# EAGLE library part CON-SD-MMC (library MAX9812)
Various SD/MMC Connectors
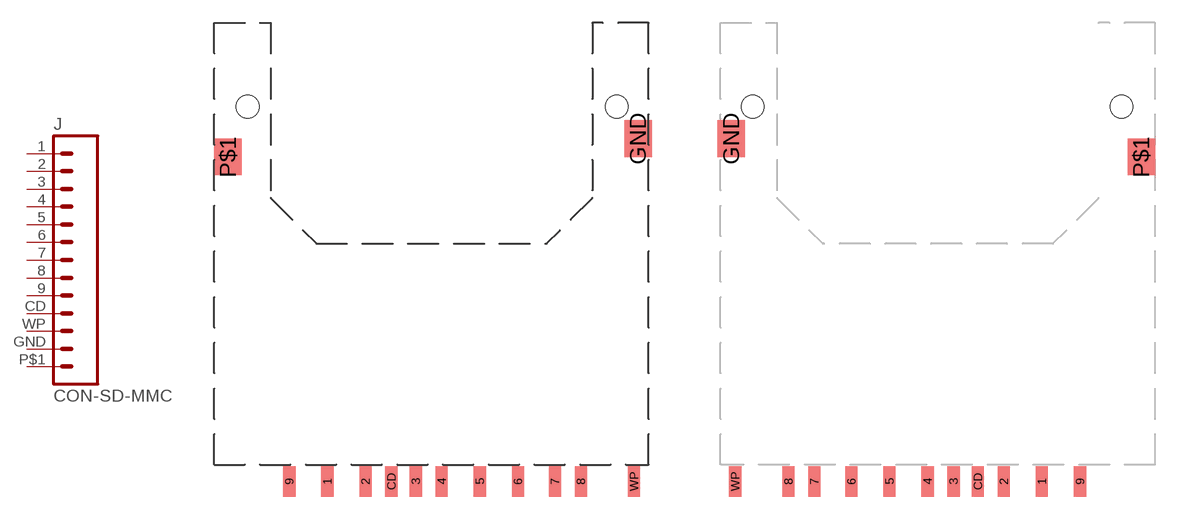
[diagram p116: symbol with the pads of 14-5638-009-511-862; footprints 14-5638-009-511-862, 14-5638-109-511-862]

Designator prefix J

## CON-SD-MMC-1  [14-5638-009-511-862]
1  1  pas
2  2  pas
3  3  pas
4  4  pas
5  5  pas
6  6  pas
7  7  pas
8  8  pas
9  9  pas
CD  CD  pas
GND  POL/GND  pas
P$1  SHIELD  pas
WP  WP  pas

## CON-SD-MMC-2  [14-5638-109-511-862]
Pads as for 14-5638-009-511-862

## CON-SD-MMC-3  [DM1AA-SF-PEJ(21)]
1  1  pas
2  2  pas
3  3  pas
4  4  pas
5  5  pas
6  6  pas
7  7  pas
8  8  pas
9  9  pas
CD  CD  pas
P$1  SHIELD  pas
POL  POL/GND  pas
WP  WP  pas

## Footprint 14-5638-009-511-862 (pad centres in mm)
AVX's 14-5638-009-511-862 Secure Digital Memory Card Connectors Series 5638 Spring Eject Type Normal Type Features: SD (Secure Digital) Memory Card technology is emerging as the next industry standard for removable flash memory and input/output devices Low profile Normal and reverse keying Card detection feature Accepts both SD and Multimedia Cards Mating cycles: 10,000 Specifications: Current Rating: 0.5A Voltage Rating: 5V Insulation Resistance: 1000M? min. Contact Resistance: 40m? Max. DW Voltage: AC 500V Operating Temperature: -25°C ~ 90°C Applications: MP3 Players PDAs Cellular Phones Digital Cameras Digital Camcorder Please send any comments to: messi@users.sourceforge.net
smd 0.8 x 2: 1 -6.88,-24.6; 2 -4.38,-24.6; 3 -1.08,-24.6; 4 0.62,-24.6; 5 3.12,-24.6; 6 5.62,-24.6; 7 8.05,-24.6; 8 9.75,-24.6; 9 -9.38,-24.6; CD -2.68,-24.6; WP 13.24,-24.6
smd 1.8 x 2.4: GND 13.5,-2.1; P$1 -13.4,-3.3
hole 1.5 at -12.1,0
hole 1.5 at 12.1,0

## Footprint 14-5638-109-511-862 (pad centres in mm)
AVX's 14-5638-109-511-862 Secure Digital Memory Card Connectors Series 5638 Spring Eject Type Reverse Type Features: SD (Secure Digital) Memory Card technology is emerging as the next industry standard for removable flash memory and input/output devices Low profile Normal and reverse keying Card detection feature Accepts both SD and Multimedia Cards Mating cycles: 10,000 Specifications: Current Rating: 0.5A Voltage Rating: 5V Insulation Resistance: 1000M? min. Contact Resistance: 40m? Max. DW Voltage: AC 500V Operating Temperature: -25°C ~ 90°C Applications: MP3 Players PDAs Cellular Phones Digital Cameras Digital Camcorder Please send any comments to: messi@users.sourceforge.net
smd 0.8 x 2: 1 6.88,-24.6; 2 4.38,-24.6; 3 1.08,-24.6; 4 -0.62,-24.6; 5 -3.12,-24.6; 6 -5.62,-24.6; 7 -8.05,-24.6; 8 -9.75,-24.6; 9 9.38,-24.6; CD 2.68,-24.6; WP -13.24,-24.6
smd 1.8 x 2.4: GND -13.5,-2.1; P$1 13.4,-3.3
hole 1.5 at 12.1,0
hole 1.5 at -12.1,0

## Footprint DM1AA-SF-PEJ(21) (pad centres in mm)
Hirose's DM1AA-SF-PEJ(21) SD Memory Card Connectors DM1 Series Features: 1. Withstands higher force of card insertion Metal cover extends over the back of the connector allowing it to withstand force of up to 400 N (static load) when dropped or accidentally hit. 2. No damage to the card when accidentally pulled-out The connectors will release the card when a moderate pull-out force of about 4 N is applied. There will be no damage to the lock components and all connector functions will not be affected. 3. Accidental card fall-out prevention Built-in lock feature holds the card securely in place. 4. Reliable Card Insertion and Withdrawal Built-in Push-in / Push-out ejection mechanism assures simple and reliable card insertion and withdrawal. 5. Designed to accept Secure Digital I/O card (Built-in Ground Contact) The connector allows use of various expansion modules, including the Bluetooth communication modules. Applications: Notebook PC's digital cameras PDA's Audio/video equipment Other devices utilizing SD I/O cards. Please send any comments to: messi@users.sourceforge.net
smd 1.2 x 2: 1 6.775,2.2; 2 4.275,2.2; 3 1.775,2.2; 4 -0.725,2.2; 5 -3.225,2.2; 6 -5.725,2.2; 7 -8.15,2.2; 8 -9.85,2.2; 9 9.275,2.2
smd 2 x 1: CD -13.4,-9.2; POL -13.4,-20.75; WP -13.4,-18.15
smd 2 x 2: P$1 -13.8,-1.2; P$2 15.2,-1.2; P$3 15.2,-23.2; P$4 -13.8,-23.2
hole 1.3 at -11.2,0
hole 1.3 at 11.2,0